# Altium schematic symbol library Connectors.SchLib: 13 symbols
Pins are listed as number, name and electrical type; pins without a type are passive.

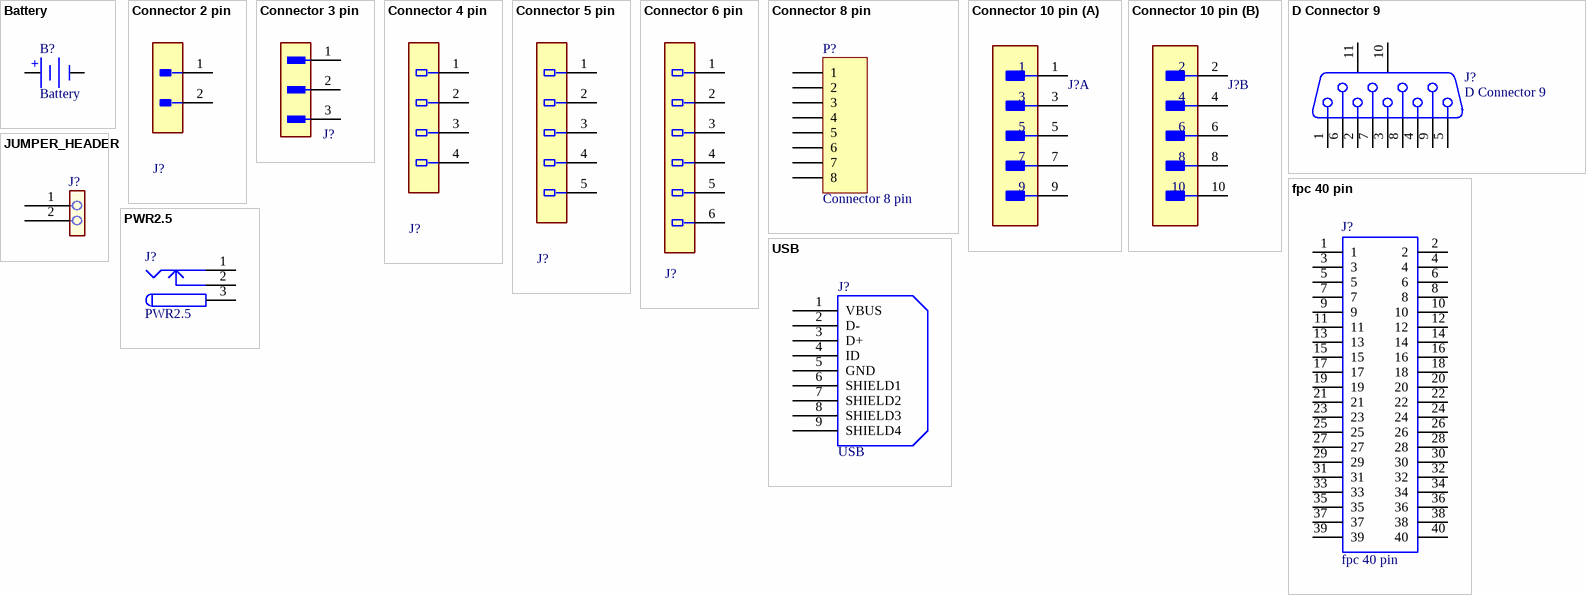
[diagram p0: symbols Battery to USB]

## Battery
designator B?
footprint 20mm Coine Battery Holder
pins: 1 +, 2 -

## Connector 2 pin
designator J?, comment Connector  (value not drawn)
Manufacturer: JST; helpURL: https://upverter.com/upn/revision/9474e29b2dfd49db/; ComponentLink2Description: Datasheet; Temperature: -25°C to +85°C; Package: HDR02; Supplier 2: Mouser; Supplier 1: Digi-Key; ComponentLink1URL: https://upverter.com/upn/revision/9474e29b2dfd49db/; Supplier Part Number 1: 455-2247-ND; ComponentLink1Description: Upverter; ComponentLink2URL: https://upverter.com/datasheet/c48c44605c8b0d25ef64da6eae03f392f2e627c8.pdf; RoHS: TRUE; Temperature Range High: +85°C; Digikey Description: CONN HEADER XH TOP 2POS 2.5MM; Digikey Part Number: 455-2247-ND; Temperature Range Low: -25°C; Lead Free: yes
footprint B2B-XH-A (Conn Shrouded Header HDR 2 POS 2.5mm Solder ST Thru-Hole Box)
footprint B2P-VH (VH Series 3.96 mm Pitch, Compact, Lock Mechanism also Prevents Misinsertion)
footprint DS1072-2 (connfly electronic CO,.LTD.)
footprint DS1072-2 90deg (connfly electronic CO,.LTD.)
footprint DS1070-2 90deg (connfly electronic CO,.LTD.)
pins: 1, 2

## Connector 3 pin
designator J?, comment Connector  (value not drawn)
footprint B3B-XH-A (Conn Shrouded Header HDR 3 POS 2.5mm Solder ST Thru-Hole Box)
footprint B3P-VH (Connector Header, VH Series, 3 Position, 3.96mm, 250V, Shrouded - 1 Wall, Through Hole, Solder, Locking Ramp, Natural)
footprint DS1072-3 (connfly electronic CO,.LTD.)
footprint DS1072-3 90deg (connfly electronic CO,.LTD.)
footprint DS1070-3 90deg (Connector; Header; 3 Position)
pins: 1, 2, 3

## Connector 4 pin
designator J?, comment Connector  (value not drawn)
Manufacturer: JST; helpURL: https://upverter.com/upn/revision/ec0bbf06de5e0de7/; ComponentLink2Description: Datasheet; Temperature: -25°C to +85°C; Package: HDR4; Supplier 2: Mouser; Price: 0.132538890827; Supplier 1: Digi-Key; ComponentLink1URL: https://upverter.com/upn/revision/ec0bbf06de5e0de7/; Supplier Part Number 1: 455-2249-ND; ComponentLink1Description: Upverter; ComponentLink2URL: http://www.jst-mfg.com/product/pdf/eng/eXH.pdf; RoHS: TRUE; Temperature Range High: +85°C; Digikey Description: CONN HEADER XH TOP 4POS 2.5MM; Digikey Part Number: 455-2249-ND; Temperature Range Low: -25°C; Lead Free: yes
footprint B4B-XH-A (XH Series 4 Position 2.5 mm Pitch Through Hole Crimp Top Entry Shrouded Header)
footprint B4P-VH (VH Series 4 Position 3.96 mm Pitch Top Entry Locking Header)
footprint DS1072-4 (connfly electronic CO,.LTD.)
footprint DS1072-4 90deg (connfly electronic CO,.LTD.)
footprint DS1070-4 90deg (Connector; Header; 4 Position)
pins: 1, 2, 3, 4

## Connector 5 pin
designator J?, comment Connector  (value not drawn)
CONN 5 Positions Header, Shrouded Connector 0.098" (2.50mm) Through Hole Tin; Manufacturer: JST; Voltage: 250V; Current Rating: 3.0A; helpURL: https://upverter.com/upn/revision/1ab21ea76326d5ac/; ComponentLink2Description: Datasheet; Temperature: -25°C to +85°C; Package: HDR5; Supplier 2: Mouser; Price: 0.161633191526; Supplier 1: Digi-Key; ComponentLink1URL: https://upverter.com/upn/revision/1ab21ea76326d5ac/; Supplier Part Number 1: 455-2270-ND; ComponentLink1Description: Upverter; ComponentLink2URL: https://upverter.com/datasheet/b8c1b2d8b2346e9957e48db718ade16bcbb9f659.pdf; RoHS: TRUE; Temperature Range High: +85°C; Digikey Description: CONN 5 Positions Header, Shrouded Connector 0.098" (2.50mm) Through Hole Tin; Digikey Part Number: 455-2270-ND; Lead Free: yes; Temperature Range Low: -25°C
footprint B5B-XH-A (Connector Header, XH Series, 5 Position, 2.50mm, Through Hole, Press-Fit, Solder, Natural)
footprint B5P-VH (Conn Wire to Board HDR 5 POS 3.96mm Solder ST Top Entry Thru-Hole Box)
pins: 1, 2, 3, 4, 5

## Connector 6 pin
designator J?, comment Connector  (value not drawn)
footprint B6B-XH-A (Conn Shrouded Header HDR 6 POS 2.5mm Solder ST Thru-Hole Box)
footprint B6P-VH (VH Series 3.96 mm Pitch 6 Position Top Entry Locking Wire to Board Header)
footprint DS1013-6 (Connector; Header; 3x2 Position)
pins: 1, 2, 3, 4, 5, 6

## Connector 8 pin
designator P?
Header, 8-Pin; LatestRevisionDate: 17-Jul-2002; LatestRevisionNote: Re-released for DXP Platform.; Publisher: Altium Limited
footprint 8P
pins: 1, 2, 3, 4, 5, 6, 7, 8

## Connector 10 pin
designator J?  (value not drawn)
footprint Amphenol_ICC_-_FCI_0_MFG
part A pins: 1, 3, 5, 7, 9
part B pins: 2, 4, 6, 8, 10

## D Connector 9
designator J?
Receptacle Assembly, 9 Position, Right Angle; PackageDocument: O; Positions: 9; Published: 15-Jun-2001; LatestRevisionDate: 17-Jul-2002; LatestRevisionNote: Re-released for DXP Platform.; DatasheetDocument: 1-Sep-1999; PackageReference: 788750; Orientation: Right Angle; Gender: Receptacle
footprint DSUB1.385-2H9 (Connector; D Subminiature; 9 Position; Right Angle; Pitch 1.385 mm)
pins: 1, 2, 3, 4, 5, 6, 7, 8, 9, 10 MH1, 11 MH2

## fpc 40 pin
designator J?
OPU FPC/FFC connector lower 90deg 40 way Amphenol FCI OPU Series 0.5mm Pitch 40 Way Right Angle SMT Male FPC Connector, ZIF Bottom Contact; Manufacturer_Part_Number: 62684-401100ALF; Manufacturer_Name: FCI; RS Part Number: 7710098; RS Price/Stock: http://uk.rs-online.com/web/p/products/7710098; Arrow Part Number: 62684-401100ALF; Arrow Price/Stock: https://www.arrow.com/en/products/62684-401100alf/amphenol-fci; Datasheet Link: http://cdn.amphenol-icc.com/media/wysiwyg/files/drawing/62684.pdf
footprint FPC 40 PIN (fpc 40 pin)
pins: 1, 2, 3, 4, 5, 6, 7, 8, 9, 10, 11, 12, 13, 14, 15, 16, 17, 18, 19, 20, 21, 22, 23, 24, 25, 26, 27, 28, 29, 30, 31, 32, 33, 34, 35, 36, 37, 38, 39, 40

## JUMPER_HEADER
designator J?, comment Jumper  (value not drawn)
1x2 pin header, 2.54mm pitch, Pin-in-Paste THM
footprint CLOSED_JUMPER
footprint OPEN_JUMPER
pins: 1, 2

## PWR2.5
designator J?
Low Voltage Power Supply Connector; Published: 17-Dec-2003; DatasheetDocument: 09-May-2002; Publisher: Altium Limited; ComponentLink1Description: Manufacturer Link; ComponentLink1URL: http://domino.kycon.com/internet/Products.html
footprint POWER JACK
signal-integrity model Connector
pins: 1, 2, 3

## USB
designator J?
footprint uUSB-AB (Hirose, ZX Series, USB Micro-AB Recept-RA)
pins: 1 VBUS, 2 D-, 3 D+, 4 ID, 5 GND, 6 SHIELD1, 7 SHIELD2, 8 SHIELD3, 9 SHIELD4